# EAGLE library part MCP23S18 (library ds_ic_peripherals)
16-Bit I/O Expander with Open-Drain Outputs
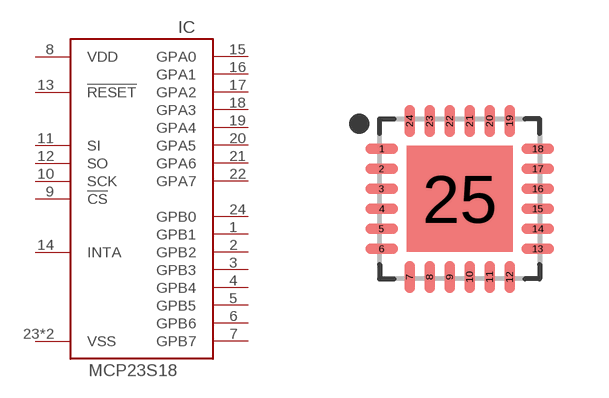
[diagram p82: symbol with the pads of QFN50P400X400X100-25T265; footprint QFN50P400X400X100-25T265]

Designator prefix IC

## MCP23S18  [QFN50P400X400X100-25T265]
1  GPB1
2  GPB2
3  GPB3
4  GPB4
5  GPB5
6  GPB6
7  GPB7
8  VDD  pwr
9  !CS  in
10  SCK  in
11  SI  in
12  SO  out
13  !RESET  in
14  INTA  out
15  GPA0
16  GPA1
17  GPA2
18  GPA3
19  GPA4
20  GPA5
21  GPA6
22  GPA7
23  VSS  pwr
24  GPB0
25  VSS  pwr

## Footprint QFN50P400X400X100-25T265 (pad centres in mm)
24-QFN, 0.50 mm pitch, 4.00 X 4.00 X 1.00 mm body, 2.65 X 2.65 mm thermal pad 24-pin QFN package with 0.50 mm pitch with body size 4.00 X 4.00 X 1.00 mm and thermal pad size 2.65 X 2.65 mm
smd 0.811 x 0.264: 1 -1.951,1.25; 2 -1.951,0.75; 3 -1.951,0.25; 4 -1.951,-0.25; 5 -1.951,-0.75; 6 -1.951,-1.25; 13 1.951,-1.25; 14 1.951,-0.75; 15 1.951,-0.25; 16 1.951,0.25; 17 1.951,0.75; 18 1.951,1.25
smd 0.264 x 0.811: 7 -1.25,-1.951; 8 -0.75,-1.951; 9 -0.25,-1.951; 10 0.25,-1.951; 11 0.75,-1.951; 12 1.25,-1.951; 19 1.25,1.951; 20 0.75,1.951; 21 0.25,1.951; 22 -0.25,1.951; 23 -0.75,1.951; 24 -1.25,1.951
smd 2.65 x 2.65: 25 0,0